# Altium footprint library R8 Bran.PcbLib: 70 footprints (part 1 of 5)
Each footprint in its own frame and in the unit in brackets; x right, y up, seen from the top. Pads: shape width x height; smd on the part's side, far side on the other; paste and mask are expansions set on the pad; w line width, h text height; cw(c..) or ccw(c..) is an arc to the next point about the centre after c.
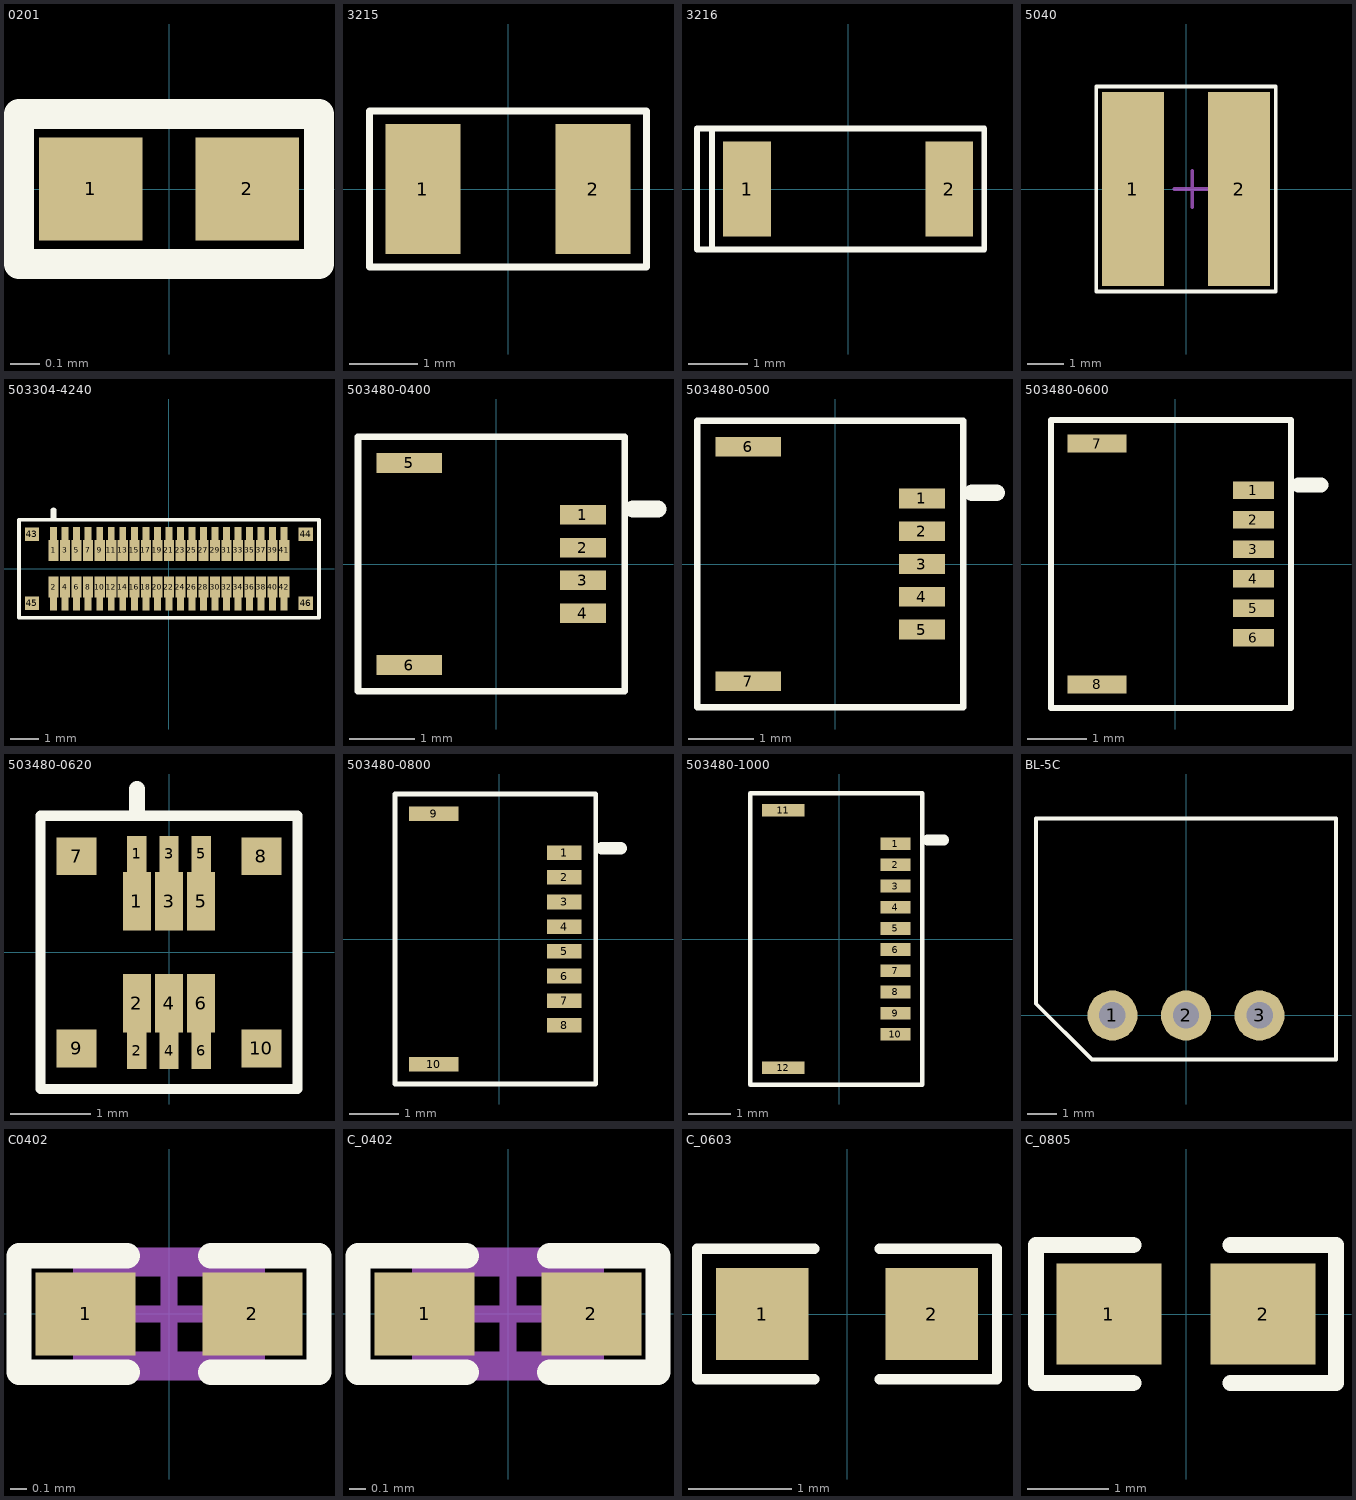
[diagram p0: the footprints below, top view; thin cyan lines are the x and y axes]

## 0201 [mm]
pads (2):
  rect 0.35x0.35 smd: 1(-0.265,0) 2(0.265,0)
Top Overlay:
  lines w0.102: -0.508,-0.254 0.508,-0.254 0.508,0.254 -0.508,0.254 -0.508,-0.254
3D body: height 0.3, standoff 0, extent -0.394,-0.252 0.394,0.252

## 3215 [mm]
pads (2):
  rect 1.1x1.9 smd: 1(-1.25,0) 2(1.25,0)
Top Overlay:
  lines w0.1: -2.032,-1.143 -2.032,1.143 2.032,1.143 2.032,-1.143 -2.032,-1.143
3D body: height 0.8, standoff 0, extent -1.902,-1.052 1.902,1.052

## 3216 [mm]
pads (2):
  rect 0.8x1.6 smd: 1(-1.7,0) 2(1.7,0)
Top Overlay:
  lines w0.1: -2.286,-1.016 -2.286,1.016 ; -2.54,-1.016 2.286,-1.016 2.286,1.016 -2.54,1.016 -2.54,-1.016
3D body: height 1.8, standoff 0, extent -1.718,-0.852 1.718,0.852

## 5040 [mm] "Molded Inductor, 2-Leads, Body 4.90x4.90mm, IPC Medium Density"
height 1.9
pads (2):
  rect 1.7x5.3 smd: 1(-1.45,0) 2(1.45,0)
Top Overlay:
  lines w0.1: -2.45,-2.8 -2.45,2.8 2.45,2.8 2.45,-2.8 -2.45,-2.8
Mechanical 13:
  lines w0.1: -1.925,-2.1 -1.925,2.1
Mechanical 15:
  lines w0.1: -0.325,0 0.675,0 ; 0.175,-0.5 0.175,0.5
3D body: height 4.1, standoff 0, extent -2.402,-2.752 2.402,2.752

## 503304-4240 [mm]
pads (88):
  rect 0.35x0.73 smd: 1(-4,0.635) 2(-4,-0.635) 3(-3.6,0.635) 4(-3.6,-0.635) 5(-3.2,0.635) 6(-3.2,-0.635) 7(-2.8,0.635) 8(-2.8,-0.635) 9(-2.4,0.635) 10(-2.4,-0.635) 11(-2,0.635) 12(-2,-0.635) 13(-1.6,0.635) 14(-1.6,-0.635) 15(-1.2,0.635) 16(-1.2,-0.635) 17(-0.8,0.635) 18(-0.8,-0.635) 19(-0.4,0.635) 20(-0.4,-0.635) 21(0,0.635) 22(0,-0.635) 23(0.4,0.635) 24(0.4,-0.635) 25(0.8,0.635) 26(0.8,-0.635) 27(1.2,0.635) 28(1.2,-0.635) 29(1.6,0.635) 30(1.6,-0.635) 31(2,0.635) 32(2,-0.635) 33(2.4,0.635) 34(2.4,-0.635) 35(2.8,0.635) 36(2.8,-0.635) 37(3.2,0.635) 38(3.2,-0.635) 39(3.6,0.635) 40(3.6,-0.635) 41(4,0.635) 42(4,-0.635)
  rect 0.24x0.45 smd paste+0: 1(-4,1.225) 3(-3.6,1.225) 5(-3.2,1.225) 7(-2.8,1.225) 8(-2.8,-1.225) 9(-2.4,1.225) 10(-2.4,-1.225) 11(-2,1.225) 12(-2,-1.225) 13(-1.6,1.225) 14(-1.6,-1.225) 15(-1.2,1.225) 16(-1.2,-1.225) 17(-0.8,1.225) 18(-0.8,-1.225) 19(-0.4,1.225) 20(-0.4,-1.225) 21(0,1.225) 22(0,-1.225) 23(0.4,1.225) 24(0.4,-1.225) 25(0.8,1.225) 26(0.8,-1.225) 27(1.2,1.225) 28(1.2,-1.225) 29(1.6,1.225) 30(1.6,-1.225) 31(2,1.225) 32(2,-1.225) 33(2.4,1.225) 34(2.4,-1.225) 35(2.8,1.225) 36(2.8,-1.225) 37(3.2,1.225) 38(3.2,-1.225) 39(3.6,1.225) 40(3.6,-1.225) 41(4,1.225) 42(4,-1.225)
  rect 0.24x0.45 smd: 2(-4,-1.225) 4(-3.6,-1.225) 6(-3.2,-1.225)
  rect 0.5x0.47 smd: 43(-4.75,1.195) 44(4.75,1.195) 45(-4.75,-1.195) 46(4.75,-1.195)
Top Overlay:
  lines w0.127: -5.2,-1.7 -5.2,1.7 5.207,1.7 5.207,-1.7 -5.2,-1.7
  lines w0.2: -4,1.778 -4,2.032

## 503480-0400 [mm]
pads (6):
  rect 0.7x0.3 smd: 1(1.325,0.75) 2(1.325,0.25) 3(1.325,-0.25) 4(1.325,-0.75)
  rect 1x0.3 smd: 5(-1.325,1.54) 6(-1.325,-1.54)
Top Overlay:
  lines w0.1: -2.104,-1.937 1.96,-1.937 1.96,1.937 -2.104,1.937 -2.104,-1.937
  lines w0.254: 2.087,0.838 2.468,0.838

## 503480-0500 [mm]
pads (7):
  rect 0.7x0.3 smd: 1(1.325,1) 2(1.325,0.5) 3(1.325,0) 4(1.325,-0.5) 5(1.325,-1)
  rect 1x0.3 smd: 6(-1.325,1.79) 7(-1.325,-1.79)
Top Overlay:
  lines w0.1: -2.104,-2.187 1.96,-2.187 1.96,2.187 -2.104,2.187 -2.104,-2.187
  lines w0.254: 2.087,1.088 2.468,1.088
3D body: height 1, standoff 0, extent -1.927,-2.042 1.777,2.042

## 503480-0600 [mm]
pads (8):
  rect 0.7x0.3 smd: 1(1.325,1.25) 2(1.325,0.75) 3(1.325,0.25) 4(1.325,-0.25) 5(1.325,-0.75) 6(1.325,-1.25)
  rect 1x0.3 smd: 7(-1.325,2.04) 8(-1.325,-2.04)
Top Overlay:
  lines w0.1: -2.104,-2.437 1.96,-2.437 1.96,2.437 -2.104,2.437 -2.104,-2.437
  lines w0.254: 2.087,1.338 2.468,1.338

## 503480-0620 [mm]
pads (16):
  rect 0.35x0.73 smd: 1(-0.4,0.635) 2(-0.4,-0.635) 3(0,0.635) 4(0,-0.635) 5(0.4,0.635) 6(0.4,-0.635)
  rect 0.24x0.45 smd paste+0: 1(-0.4,1.225) 3(0,1.225) 5(0.4,1.225)
  rect 0.24x0.45 smd: 2(-0.4,-1.225) 4(0,-1.225) 6(0.4,-1.225)
  rect 0.5x0.47 smd: 7(-1.15,1.195) 8(1.15,1.195) 9(-1.15,-1.195) 10(1.15,-1.195)
Top Overlay:
  lines w0.127: -1.6,-1.7 -1.6,1.7 1.6,1.7 1.6,-1.7 -1.6,-1.7
  lines w0.2: -0.4,1.778 -0.4,2.032

## 503480-0800 [mm]
pads (10):
  rect 0.7x0.3 smd: 1(1.325,1.75) 2(1.325,1.25) 3(1.325,0.75) 4(1.325,0.25) 5(1.325,-0.25) 6(1.325,-0.75) 7(1.325,-1.25) 8(1.325,-1.75)
  rect 1x0.3 smd: 9(-1.325,2.54) 10(-1.325,-2.54)
Top Overlay:
  lines w0.1: -2.104,-2.937 1.96,-2.937 1.96,2.937 -2.104,2.937 -2.104,-2.937
  lines w0.254: 2.087,1.838 2.468,1.838

## 503480-1000 [mm]
pads (12):
  rect 0.7x0.3 smd: 1(1.325,2.25) 2(1.325,1.75) 3(1.325,1.25) 4(1.325,0.75) 5(1.325,0.25) 6(1.325,-0.25) 7(1.325,-0.75) 8(1.325,-1.25) 9(1.325,-1.75) 10(1.325,-2.25)
  rect 1x0.3 smd: 11(-1.325,3.04) 12(-1.325,-3.04)
Top Overlay:
  lines w0.1: -2.104,-3.437 -2.104,3.437 1.96,3.437 1.96,-3.437 -2.104,-3.437
  lines w0.254: 2.087,2.338 2.468,2.338

## BL-5C [mm]
pads (3):
  round 1.7 hole 0.9: 1(-2.5,0) 2(0,0) 3(2.5,0)
Top Overlay:
  lines w0.127: -5.1,0.401 -5.1,6.7 5.1,6.7 5.1,-1.5 -3.199,-1.5 -5.1,0.401
3D body: height 4.2, standoff 0, extent -5.143,-0.952 5.143,6.667

## C0402 [mm]
pads (2):
  rect 0.6x0.5 smd: 1(-0.5,0) 2(0.5,0)
Top Overlay:
  lines w0.152: -0.25,-0.35 -0.9,-0.35 -0.9,0.35 -0.25,0.35 ; 0.25,-0.35 0.9,-0.35 0.9,0.35 0.25,0.35
Mechanical 13:
  lines w0.1: -0.525,-0.275 0.525,-0.275 0.525,0.275 -0.525,0.275 -0.525,-0.275
Mechanical 15:
  lines w0.1: -0.275,0 0.275,0 ; 0,-0.275 0,0.275 ; -0.9,-0.35 -0.9,0.35 0.9,0.35 0.9,-0.35 -0.9,-0.35
3D body "User Library-0402(1005M) Cap.step": height 0.5, standoff -0.01, extent -0.508,-0.254 0.508,0.254

## C_0402 [mm]
pads (2):
  rect 0.6x0.5 smd: 1(-0.5,0) 2(0.5,0)
Top Overlay:
  lines w0.152: -0.25,-0.35 -0.9,-0.35 -0.9,0.35 -0.25,0.35 ; 0.25,-0.35 0.9,-0.35 0.9,0.35 0.25,0.35
Mechanical 13:
  lines w0.1: -0.525,-0.275 0.525,-0.275 0.525,0.275 -0.525,0.275 -0.525,-0.275
Mechanical 15:
  lines w0.1: -0.275,0 0.275,0 ; 0,-0.275 0,0.275 ; -0.9,-0.35 -0.9,0.35 0.9,0.35 0.9,-0.35 -0.9,-0.35
3D body "User Library-0402(1005M) Cap.step": height 0.5, standoff -0.01, extent -0.508,-0.254 0.508,0.254

## C_0603 [mm]
pads (2):
  rect 0.9x0.9 smd: 1(-0.826,0) 2(0.826,0)
Top Overlay:
  lines w0.102: -0.318,-0.635 -1.46,-0.635 -1.46,0.635 -0.318,0.635 ; 0.318,-0.635 1.46,-0.635 1.46,0.635 0.318,0.635
3D body: height 0.9, standoff 0, extent -1.377,-0.552 1.377,0.552

## C_0805 [mm]
pads (2):
  rect 1.3x1.25 smd: 1(-0.95,0) 2(0.95,0)
Top Overlay:
  lines w0.2: -0.65,-0.85 -1.85,-0.85 -1.85,0.85 -0.65,0.85 ; 0.55,-0.85 1.85,-0.85 1.85,0.85 0.55,0.85
3D body: height 0.6, standoff 0, extent -1.702,-0.727 1.702,0.727